# Altium schematic symbol library KF142R-5.08-2P.Schlib: 1 symbol
Pins are listed as number, name and electrical type; pins without a type are passive.

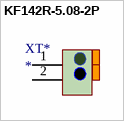
[diagram p0: symbol KF142R-5.08-2P]

## KF142R-5.08-2P
designator XT*
P-5.08mm Spring Clamp System Terminal Block RoHS; ComponentLink1Description: LCSC - Cixi Kefa Elec KF142R-5.08-2P; ComponentLink1URL: https://lcsc.com/product-detail/New-Quadratic-Unclassified-Data_Cixi-Kefa-Elec-KF142R-5-08-2P_C475144.html; LCSC Part #: C475144
footprint KF142R-5.08-2P
pins: 1, 2